# Altium schematic symbol library FS8205.Schlib: 1 symbol
Pins are listed as number, name and electrical type; pins without a type are passive.

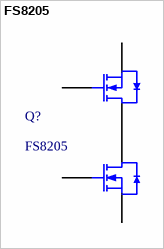
[diagram p0: symbol FS8205]

## FS8205
designator Q?
MOS(场效应管)
footprint SOT-23-6
pins: 1 S, 2 D, 3 S, 4 G, 5 D, 6 G